# Altium footprint library semicon.PCBLIB: 115 footprints (part 3 of 8)
Each footprint in its own frame and in the unit in brackets; x right, y up, seen from the top. Pads: shape width x height; smd on the part's side, far side on the other; paste and mask are expansions set on the pad; w line width, h text height; cw(c..) or ccw(c..) is an arc to the next point about the centre after c.
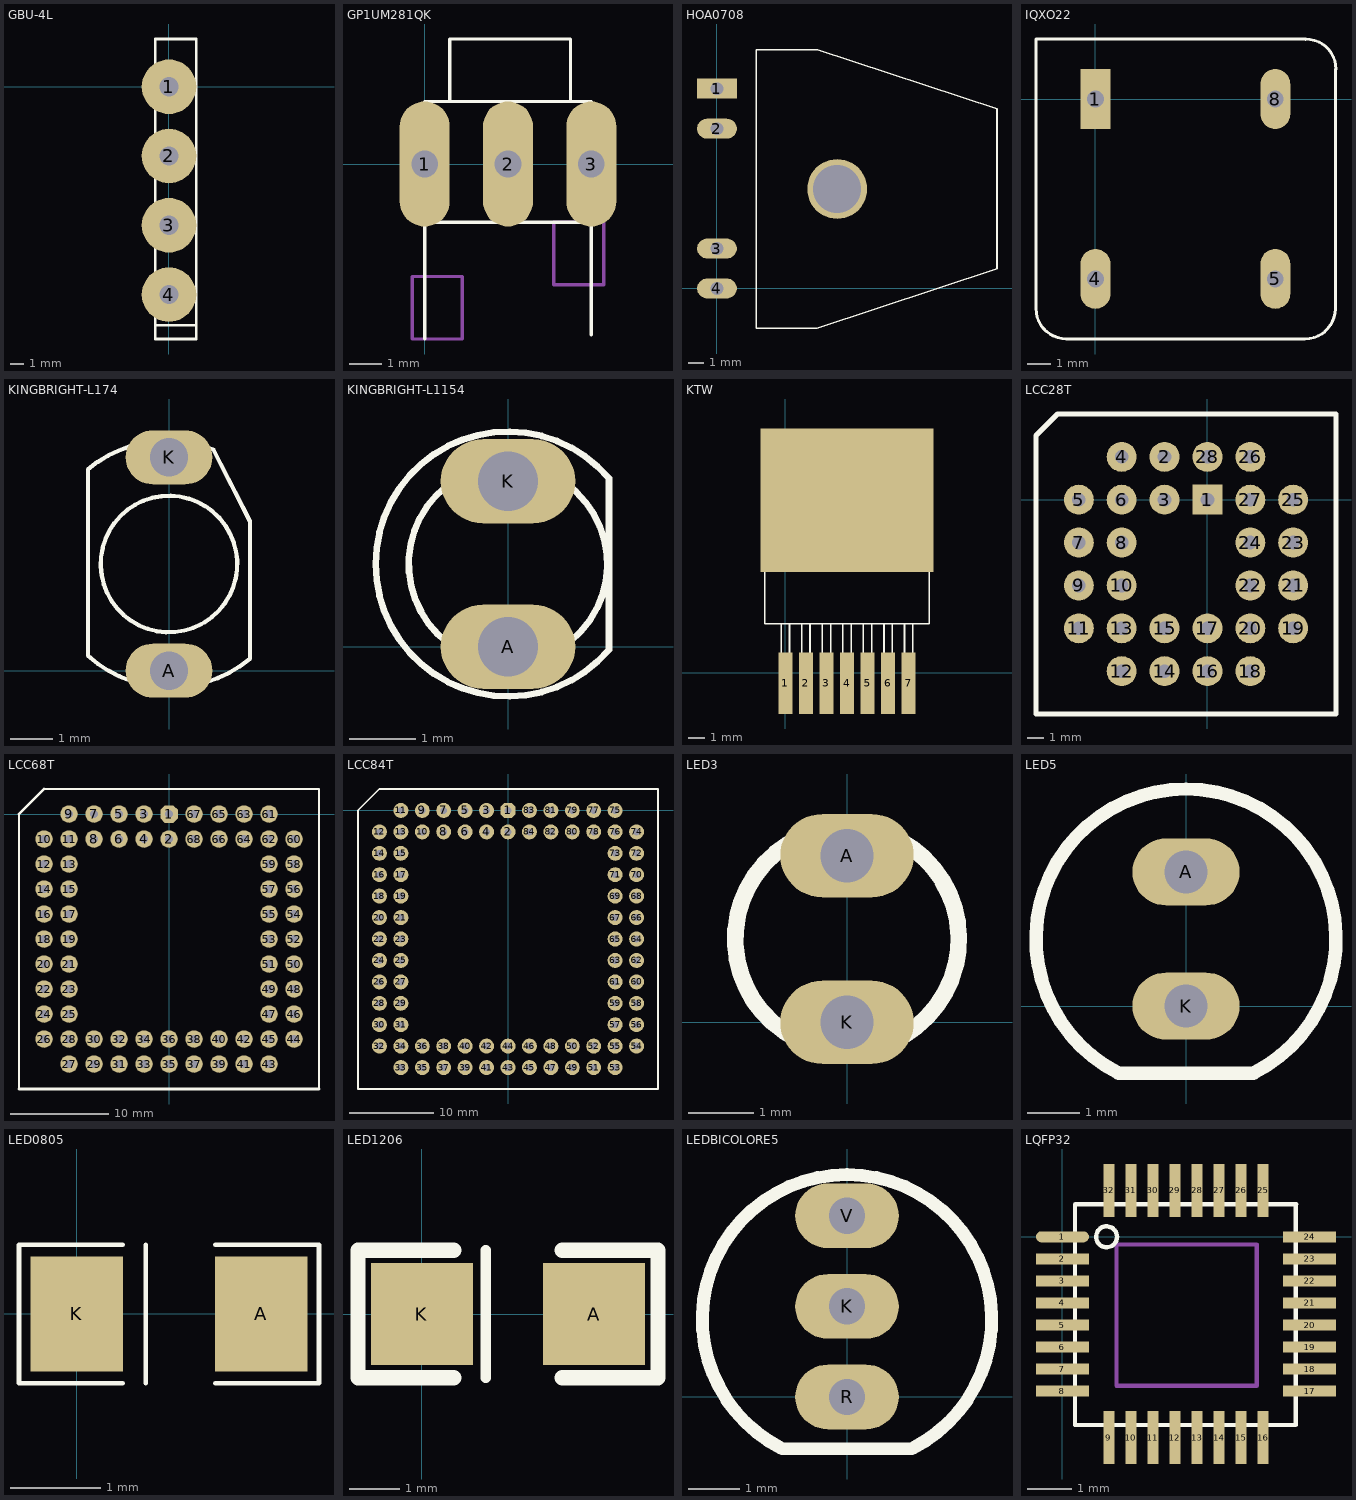
[diagram p2: the footprints below, top view; thin cyan lines are the x and y axes]

## GBU-4L [mm]
pads (4):
  round 4 hole 1.4: 1(0,0) 2(0,-5.08) 3(0,-10.16) 4(0,-15.24)
Top Overlay:
  lines w0.2: -1,-17.5 2,-17.5 ; -1,-17.5 -1,-18.5 2,-18.5 2,-17.5 ; -1,-17.5 -1,2.5 -1,3.5 2,3.5 2,2.5 2,-17.5

## GP1UM281QK [mil]
pads (3):
  oval 60x150 hole 32: 1(0,0) 2(100,0) 3(200,0)
Top Overlay:
  lines w3.94: 0,-210 0,-85 0,-70 ; 30,75 30,150 175,150 175,75 ; 200,-205 200,-70 ; 0,-70 0,75 200,75 200,-70 ; 0,-70 200,-70
Mechanical 4:
  lines w3.94: -15,-210 -15,-135 45,-135 45,-210 -15,-210 ; 155,-145 155,-70 215,-70 215,-145 155,-145

## HOA0708 [mil]
pads (5):
  rect 100x50 hole 32: 1(0,500)
  oval 100x50 hole 32: 2(0,400) 3(0,100) 4(0,0)
  round 150 hole 120: ""(301,249)
Top Overlay:
  lines w3.94: 98,-100 98,598 252,598 701,450 701,49 250,-100 100,-100 98,-100

## IQXO22 [mil]
pads (4):
  rect 50x100 hole 28: 1(0,0)
  oval 50x100 hole 28: 4(0,-300) 5(300,-300) 8(300,0)
Top Overlay:
  lines w5: -99.18,-349.6 ccw(c-48.77,-349.6) -49,-400 349.6,-400.18 ccw(c349.6,-349.77) 400,-350 400,50 ; -99,-350 -99,100 350,100 350,99 ; 351,100 cw(c350.77,49.6) 401.18,49.6

## KINGBRIGHT-L174 [mm] "3mm LED"
pads (2):
  oval 2.032x1.27 hole 0.9: A(0,0) K(0,5)
Top Overlay:
  lines w0.1: 0.763,1.094 cw(c0,2.5) 0.823,1.128 ; -1.9,0.348 ccw(c0.041,2.523) 1.9,0.277 1.9,3.5 1.037,5.186 ccw(c-0.041,2.477) -1.9,4.723 -1.9,0.348

## KINGBRIGHT-L1154 [mm] "3mm LED"
pads (2):
  oval 2.032x1.27 hole 0.9: A(0,0) K(0,2.5)
Top Overlay:
  lines w0.1: 0.715,-0.068 cw(c0,1.25) 0.772,-0.036 ; 1.525,-0.044 cw(c0,1.25) 1.525,2.544 1.525,-0.044

## KTW [mil]
pads (8):
  rect 34x150 smd: 1(0,-25) 2(50,-25) 3(100,-25) 4(150,-25) 5(200,-25) 6(250,-25) 7(300,-25)
  rect 420x350 smd: ""(150,420)
Top Overlay:
  lines w3.94: -10,120 -10,-50 10,-50 10,120 ; 40,120 40,-50 60,-50 60,120 ; 90,120 90,-50 110,-50 110,120 ; 140,120 140,-50 160,-50 160,120 ; 190,120 190,-50 210,-50 210,120 ; 240,120 240,-50 260,-50 260,120 ; 290,120 290,-50 310,-50 310,120 ; -50,490 -50,520 -20,550 220,550 320,550 350,520 350,490 ; -50,490 350,490 ; -50,490 -50,120 350,120 350,490

## LCC28T [mil]
pads (28):
  rect 70x70 hole 32 unplated: 1(0,0)
  round 70 hole 32 unplated: 2(-100,100) 3(-100,0) 4(-200,100) 5(-300,0) 6(-200,0) 7(-300,-100) 8(-200,-100) 9(-300,-200) 10(-200,-200) 11(-300,-300) 12(-200,-400) 13(-200,-300) 14(-100,-400) 15(-100,-300) 16(0,-400) 17(0,-300) 18(100,-400) 19(200,-300) 20(100,-300) 21(200,-200) 22(100,-200) 23(200,-100) 24(100,-100) 25(200,0) 26(100,100) 27(100,0) 28(0,100)
Top Overlay:
  lines w12: -400,-500 300,-500 300,200 -350,200 -400,150 -400,-500

## LCC68T [mil]
pads (68):
  oct 70x70 hole 32: 1(0,0)
  round 70 hole 32: 2(0,-100) 3(-100,0) 4(-100,-100) 5(-200,0) 6(-200,-100) 7(-300,0) 8(-300,-100) 9(-400,0) 10(-500,-100) 11(-400,-100) 12(-500,-200) 13(-400,-200) 14(-500,-300) 15(-400,-300) 16(-500,-400) 17(-400,-400) 18(-500,-500) 19(-400,-500) 20(-500,-600) 21(-400,-600) 22(-500,-700) 23(-400,-700) 24(-500,-800) 25(-400,-800) 26(-500,-900) 27(-400,-1000) 28(-400,-900) 29(-300,-1000) 30(-300,-900) 31(-200,-1000) 32(-200,-900) 33(-100,-1000) 34(-100,-900) 35(0,-1000) 36(0,-900) 37(100,-1000) 38(100,-900) 39(200,-1000) 40(200,-900) 41(300,-1000) 42(300,-900) 43(400,-1000) 44(500,-900) 45(400,-900) 46(500,-800) 47(400,-800) 48(500,-700) 49(400,-700) 50(500,-600) 51(400,-600) 52(500,-500) 53(400,-500) 54(500,-400) 55(400,-400) 56(500,-300) 57(400,-300) 58(500,-200) 59(400,-200) 60(500,-100) 61(400,0) 62(400,-100) 63(300,0) 64(300,-100) 65(200,0) 66(200,-100) 67(100,0) 68(100,-100)
Top Overlay:
  lines w8: -600,-1100 -600,0 ; -500,100 600,100 600,-1100
  lines w12: -600,-1100 600,-1100 ; -600,0 -500,100

## LCC84T [mil]
pads (84):
  oct 70x70 hole 32: 1(0,0)
  round 70 hole 32: 2(0,-100) 3(-100,0) 4(-100,-100) 5(-200,0) 6(-200,-100) 7(-300,0) 8(-300,-100) 9(-400,0) 10(-400,-100) 11(-500,0) 12(-600,-100) 13(-500,-100) 14(-600,-200) 15(-500,-200) 16(-600,-300) 17(-500,-300) 18(-600,-400) 19(-500,-400) 20(-600,-500) 21(-500,-500) 22(-600,-600) 23(-500,-600) 24(-600,-700) 25(-500,-700) 26(-600,-800) 27(-500,-800) 28(-600,-900) 29(-500,-900) 30(-600,-1000) 31(-500,-1000) 32(-600,-1100) 33(-500,-1200) 34(-500,-1100) 35(-400,-1200) 36(-400,-1100) 37(-300,-1200) 38(-300,-1100) 39(-200,-1200) 40(-200,-1100) 41(-100,-1200) 42(-100,-1100) 43(0,-1200) 44(0,-1100) 45(100,-1200) 46(100,-1100) 47(200,-1200) 48(200,-1100) 49(300,-1200) 50(300,-1100) 51(400,-1200) 52(400,-1100) 53(500,-1200) 54(600,-1100) 55(500,-1100) 56(600,-1000) 57(500,-1000) 58(600,-900) 59(500,-900) 60(600,-800) 61(500,-800) 62(600,-700) 63(500,-700) 64(600,-600) 65(500,-600) 66(600,-500) 67(500,-500) 68(600,-400) 69(500,-400) 70(600,-300) 71(500,-300) 72(600,-200) 73(500,-200) 74(600,-100) 75(500,0) 76(500,-100) 77(400,0) 78(400,-100) 79(300,0) 80(300,-100) 81(200,0) 82(200,-100) 83(100,0) 84(100,-100)
Top Overlay:
  lines w8: -700,-1300 700,-1300 700,100 -600,100 -700,0 -700,-1300

## LED3 [mil] "3mm LED"
pads (2):
  oval 80x50 hole 32: A(0,100) K(0,0)
Top Overlay:
  lines w10: 34.51,-7.52 ccw(c0,50) -30,-10 ; -30,-10 32.04,-10 ; -30,-10 32.04,-10 ; -30,-10 32.04,-10 ; -30,-10 32.04,-10

## LED5 [mil] "5mm LED"
pads (2):
  oval 80x50 hole 32: A(0,100) K(0,0)
Top Overlay:
  lines w10: -50.76,-49.62 cw(c0,50) 50.76,-49.62 ; -50,-50 50,-50

## LED0805 [mil]
pads (2):
  rect 40x50 smd: A(80,0) K(0,0)
Top Overlay:
  lines w1.97: 30,-30 30,30
  lines w2: 20,-30 -25,-30 -25,30 20,30 ; 60,-30 105,-30 105,30 60,30

## LED1206 [mil]
pads (2):
  rect 80x80 smd: A(135,0) K(0,0)
Top Overlay:
  lines w8: 50,-50 50,50
  lines w12: 25,-50 -50,-50 -50,50 25,50 ; 110,-50 185,-50 185,50 110,50

## LEDBICOLORE5 [mil] "5mm bicolore"
pads (3):
  oval 80x50 hole 28: K(0,70) R(0,0) V(0,140)
Top Overlay:
  lines w10: -50.76,-39.62 cw(c0,60) 50.76,-39.62 ; -50,-40 50,-40

## LQFP32 [mm]
pads (32):
  oval 1.2x0.25 smd: 1(0,0)
  rect 1.2x0.25 smd: 2(0,-0.5) 3(0,-1) 4(0,-1.5) 5(0,-2) 6(0,-2.5) 7(0,-3) 8(0,-3.5) 17(5.6,-3.5) 18(5.6,-3) 19(5.6,-2.5) 20(5.6,-2) 21(5.6,-1.5) 22(5.6,-1) 23(5.6,-0.5) 24(5.6,0)
  rect 0.25x1.2 smd: 9(1.05,-4.55) 10(1.55,-4.55) 11(2.05,-4.55) 12(2.55,-4.55) 13(3.05,-4.55) 14(3.55,-4.55) 15(4.05,-4.55) 16(4.55,-4.55) 25(4.55,1.05) 26(4.05,1.05) 27(3.55,1.05) 28(3.05,1.05) 29(2.55,1.05) 30(2.05,1.05) 31(1.55,1.05) 32(1.05,1.05)
Top Overlay:
  circle w0.1: c1,0 r0.237
  lines w0.1: 0.285,-4.265 0.285,0.73 ; 0.29,0.74 5.295,0.74 ; 0.31,-4.265 5.29,-4.265 5.29,0.74
Mechanical 16:
  lines w0.1: 1.225,-3.375 4.4,-3.375 4.4,-0.175 1.225,-0.175 1.225,-3.375